# Altium footprint library PCB - LEADLESS - QFN - TI QFN-32 RSN S-PWQFN-N32.PcbLib: 1 footprints
Each footprint in its own frame and in the unit in brackets; x right, y up, seen from the top. Pads: shape width x height; smd on the part's side, far side on the other; paste and mask are expansions set on the pad; w line width, h text height; cw(c..) or ccw(c..) is an arc to the next point about the centre after c.
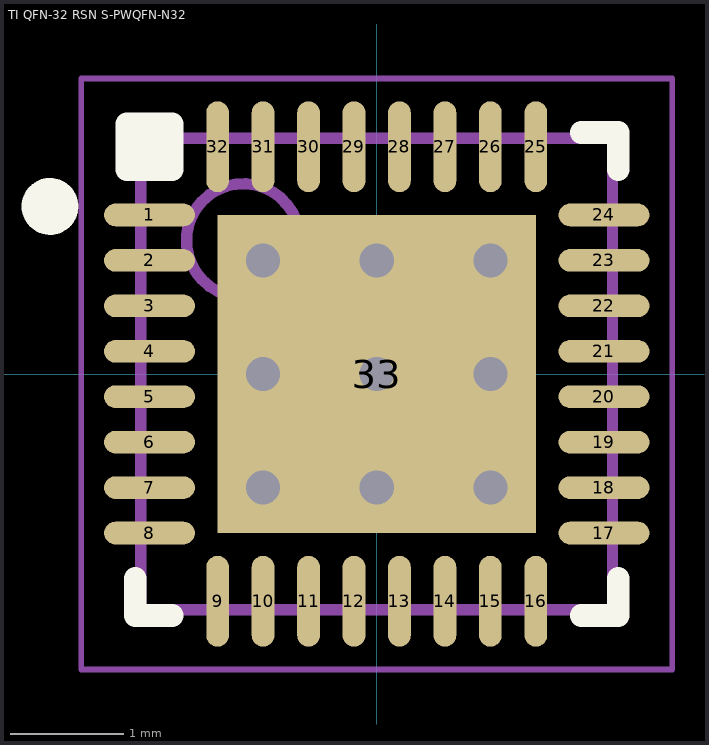
[diagram p0: the footprint, top view; thin cyan lines are the x and y axes]

## TI QFN-32 RSN S-PWQFN-N32 [mm] "QFN, 32-Leads, Body 4.00x4.00mm, Pitch 0.40mm, Thermal Pad 2.80x2.80mm"
height 0.8
pads (33):
  oval 0.8x0.2 smd: 1(-2,1.4) 2(-2,1) 3(-2,0.6) 4(-2,0.2) 5(-2,-0.2) 6(-2,-0.6) 7(-2,-1) 8(-2,-1.4) 17(2,-1.4) 18(2,-1) 19(2,-0.6) 20(2,-0.2) 21(2,0.2) 22(2,0.6) 23(2,1) 24(2,1.4)
  oval 0.2x0.8 smd: 9(-1.4,-2) 10(-1,-2) 11(-0.6,-2) 12(-0.2,-2) 13(0.2,-2) 14(0.6,-2) 15(1,-2) 16(1.4,-2) 25(1.4,2) 26(1,2) 27(0.6,2) 28(0.2,2) 29(-0.2,2) 30(-0.6,2) 31(-1,2) 32(-1.4,2)
  rect 2.8x2.8 smd paste-2539.97 mask+0.102: 33(0,0)
via -1,-1 diameter 0.6 hole 0.3
via 0,-1 diameter 0.6 hole 0.3
via 0,0 diameter 0.6 hole 0.3
via 1,-1 diameter 0.6 hole 0.3
via 1,0 diameter 0.6 hole 0.3
via 1,1 diameter 0.6 hole 0.3
via 0,1 diameter 0.6 hole 0.3
via -1,1 diameter 0.6 hole 0.3
via -1,0 diameter 0.6 hole 0.3
Top Overlay:
  circle w0.25: c-2.875,1.475 r0.125
  rectangle: -2.2,1.8 -1.8,2.2
  lines w0.2: -2.125,-1.8 -2.125,-2.125 -1.8,-2.125 ; 1.8,-2.125 2.125,-2.125 2.125,-1.8 ; 1.8,2.125 2.125,2.125 2.125,1.8 ; -2.2,1.8 -2.2,2.2 -1.8,2.2 -1.8,1.8 -2.2,1.8
Top Paste:
  drawing of 4 lines, arcs and shapes, not listed
Top Solder:
  drawing of 4 lines, arcs and shapes, not listed
Mechanical 13:
  circle w0.1: c-1.175,1.175 r0.5
  lines w0.1: -2.075,-2.075 2.075,-2.075 2.075,2.075 -2.075,2.075 -2.075,-2.075
Mechanical 15:
  lines w0.05: -2.6,-2.6 2.6,-2.6 2.6,2.6 -2.6,2.6 -2.6,-2.6
  lines w0.1: -0.5,0 0.5,0 ; 0,-0.5 0,0.5
3D body "TI QFN-32 RSN S-PWQFN-N32.step": height 0.8, standoff 0, extent -2.085,-2.085 2.085,2.085